# Altium footprint library modFOC_ESC.PcbLib: 36 footprints (part 1 of 3)
Each footprint in its own frame and in the unit in brackets; x right, y up, seen from the top. Pads: shape width x height; smd on the part's side, far side on the other; paste and mask are expansions set on the pad; w line width, h text height; cw(c..) or ccw(c..) is an arc to the next point about the centre after c.
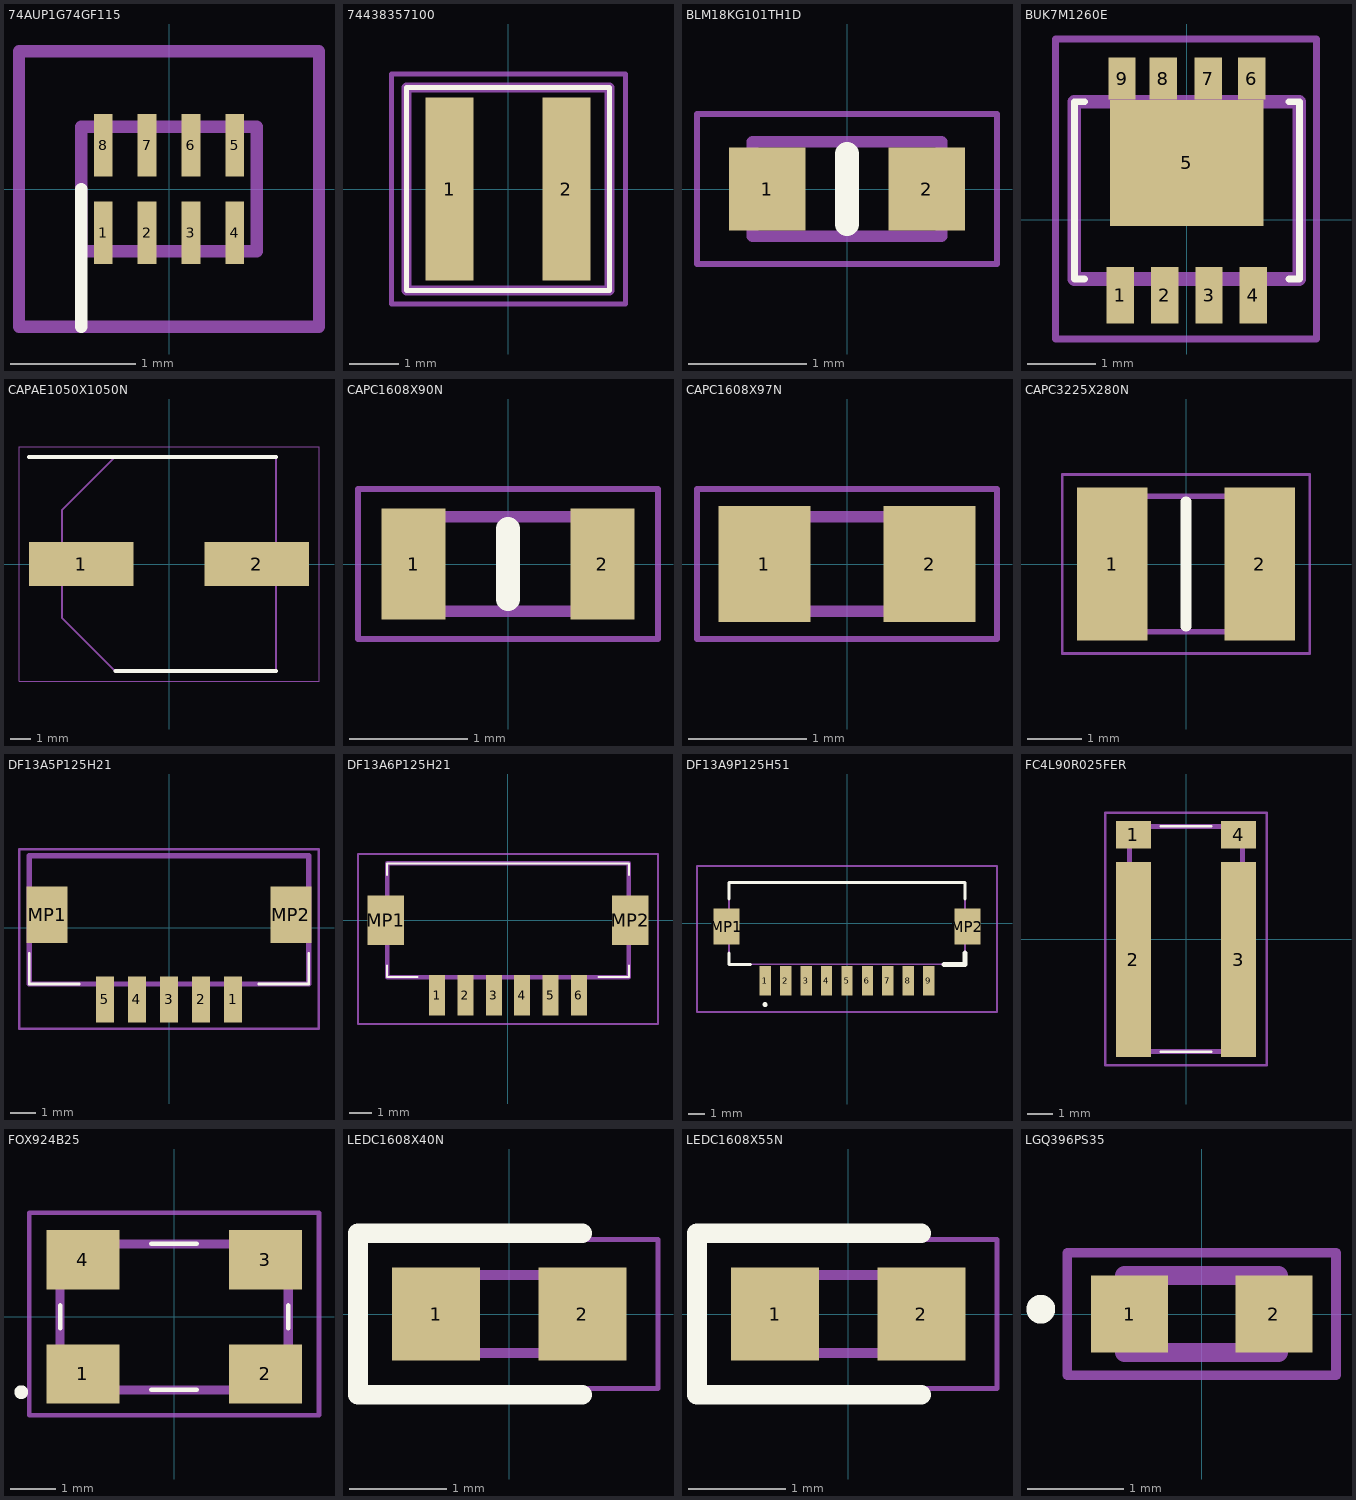
[diagram p0: the footprints below, top view; thin cyan lines are the x and y axes]

## 74AUP1G74GF115 [mm]
pads (8):
  rect 0.15x0.5 smd: 1(-0.525,-0.35) 2(-0.175,-0.35) 3(0.175,-0.35) 4(0.525,-0.35) 5(0.525,0.35) 6(0.175,0.35) 7(-0.175,0.35) 8(-0.525,0.35)
Top Overlay:
  lines w0.1: -0.7,-1.1 -0.7,0
Mechanical 13:
  lines w0.1: -0.7,-0.5 0.7,-0.5 0.7,0.5 -0.7,0.5 -0.7,-0.5
Mechanical 15:
  lines w0.1: -1.2,-1.1 1.2,-1.1 1.2,1.1 -1.2,1.1 -1.2,-1.1
3D body "74AUP2G132GF,115.stp": height 0.6, standoff 0, extent -0.7,-0.5 0.7,0.5

## 74438357100 [mm]
pads (2):
  rect 0.97x3.7 smd: 1(-1.18,0) 2(1.18,0)
Top Overlay:
  lines w0.1: -2.05,-2.05 -2.05,2.05 2.05,2.05 2.05,-2.05 -2.05,-2.05
Mechanical 13:
  lines w0.2: -2.05,-2.05 -2.05,2.05 2.05,2.05 2.05,-2.05 -2.05,-2.05
Mechanical 15:
  lines w0.1: -2.35,-2.325 -2.35,2.325 2.375,2.325 2.375,-2.325 -2.35,-2.325
3D body "74438357100.stp": height 4.1, standoff 0, extent -2.05,-2.05 2.05,2.05

## BLM18KG101TH1D [mm]
pads (2):
  rect 0.65x0.7 smd: 1(-0.675,0) 2(0.675,0)
Top Overlay:
  lines w0.2: 0,-0.3 0,0.3
Mechanical 13:
  lines w0.1: -0.8,-0.4 -0.8,0.4 0.8,0.4 0.8,-0.4 -0.8,-0.4
Mechanical 15:
  lines w0.05: -1.27,-0.635 -1.27,0.635 1.27,0.635 1.27,-0.635 -1.27,-0.635
3D body "BLM18KG300TH1D.stp": height 0.85, standoff 0, extent -0.935,-0.4 0.935,0.4

## BUK7M1260E [mm]
pads (9):
  rect 0.4x0.83 smd: 1(-0.975,-1.106) 2(-0.325,-1.106) 3(0.325,-1.106) 4(0.975,-1.106)
  rect 2.25x1.85 smd: 5(0,0.834)
  rect 0.4x0.62 smd: 6(0.95,2.069) 7(0.312,2.069) 8(-0.345,2.069) 9(-0.95,2.069)
Top Overlay:
  lines w0.1: -1.5,-0.869 -1.65,-0.869 -1.65,1.731 -1.5,1.731 ; 1.5,-0.869 1.65,-0.869 1.65,1.731 1.5,1.731
Mechanical 13:
  lines w0.2: -1.65,-0.869 -1.65,1.731 1.65,1.731 1.65,-0.869 -1.65,-0.869
Mechanical 15:
  lines w0.1: -1.925,-1.75 -1.925,2.65 1.9,2.65 1.9,-1.75 -1.925,-1.75

## CAPAE1050X1050N [mm]
pads (2):
  rect 5.1x2.15 smd: 1(-4.3,0) 2(4.3,0)
Top Overlay:
  lines w0.2: -6.85,5.25 5.25,5.25 ; -2.625,-5.25 5.25,-5.25
Mechanical 13:
  lines w0.1: -5.25,-2.625 -5.25,2.625 -2.625,5.25 5.25,5.25 5.25,-5.25 -2.625,-5.25 -5.25,-2.625
Mechanical 15:
  lines w0.05: -7.35,-5.75 7.35,-5.75 7.35,5.75 -7.35,5.75 -7.35,-5.75
3D body "MAL215097701E3.stp": height 10.5, standoff 0, extent -6.05,-5.25 6.05,5.25

## CAPC1608X90N [mm]
pads (2):
  rect 0.54x0.94 smd: 1(-0.8,0) 2(0.8,0)
Top Overlay:
  lines w0.2: 0,-0.3 0,0.3
Mechanical 13:
  lines w0.1: -0.8,-0.4 -0.8,0.4 0.8,0.4 0.8,-0.4 -0.8,-0.4
Mechanical 15:
  lines w0.05: -1.27,-0.635 -1.27,0.635 1.27,0.635 1.27,-0.635 -1.27,-0.635
3D body "CGA3E2X7R1H473K080AA.stp": height 0.9, standoff 0, extent -0.8,-0.4 0.8,0.4

## CAPC1608X97N [mm]
pads (2):
  rect 0.78x0.98 smd: 1(-0.7,0) 2(0.7,0)
Mechanical 13:
  lines w0.1: -0.8,-0.4 -0.8,0.4 0.8,0.4 0.8,-0.4 -0.8,-0.4
Mechanical 15:
  lines w0.05: -1.27,-0.635 -1.27,0.635 1.27,0.635 1.27,-0.635 -1.27,-0.635
3D body "VJ0603Y104JXJAC.stp": height 0.97, standoff 0, extent -0.8,-0.4 0.8,0.4

## CAPC3225X280N [mm]
pads (2):
  rect 1.3x2.82 smd: 1(-1.36,0) 2(1.36,0)
Top Overlay:
  lines w0.2: 0,-1.15 0,1.15
Mechanical 13:
  lines w0.1: -1.6,-1.25 1.6,-1.25 1.6,1.25 -1.6,1.25 -1.6,-1.25
Mechanical 15:
  lines w0.05: -2.286,-1.651 2.286,-1.651 2.286,1.651 -2.286,1.651 -2.286,-1.651
3D body "CL32B106KMVNNWE.stp": height 2.8, standoff 0, extent -1.6,-1.25 1.6,1.25

## DF13A5P125H21 [mm]
pads (7):
  rect 0.7x1.8 smd: 1(2.5,-2.8) 2(1.25,-2.8) 3(0,-2.8) 4(-1.25,-2.8) 5(-2.5,-2.8)
  rect 1.6x2.2 smd: MP1(-4.75,0.5) MP2(4.75,0.5)
Top Overlay:
  lines w0.1: -5.45,-1 -5.45,-2.2 -3.5,-2.2 ; 3.5,-2.2 5.45,-2.2 5.45,-1
Mechanical 13:
  lines w0.2: -5.45,-2.2 -5.45,2.8 5.45,2.8 5.45,-2.2 -5.45,-2.2
Mechanical 15:
  lines w0.1: -5.842,-3.937 -5.842,3.048 5.842,3.048 5.842,-3.937 -5.842,-3.937
3D body "DF13A-5P-1.25H_21_.stp": height 3.85, standoff 0, extent -5.45,-3.63 5.45,2.8

## DF13A6P125H21 [mm]
pads (8):
  rect 0.7x1.8 smd: 1(-3.125,-3.3) 2(-1.875,-3.3) 3(-0.625,-3.3) 4(0.625,-3.3) 5(1.875,-3.3) 6(3.125,-3.3)
  rect 1.6x2.2 smd: MP1(-5.375,0) MP2(5.375,0)
Top Overlay:
  lines w0.1: -5.325,-2 -5.325,-2.5 -4,-2.5 ; -5.325,2 -5.325,2.5 5.325,2.5 5.325,2 ; 4,-2.5 5.325,-2.5 5.325,-2
Mechanical 13:
  lines w0.2: -5.325,-2.5 5.325,-2.5 5.325,2.5 -5.325,2.5 -5.325,-2.5
Mechanical 15:
  lines w0.1: -6.604,-4.572 6.604,-4.572 6.604,2.921 -6.604,2.921 -6.604,-4.572
3D body "DF13A-6P-1.25H.stp": height 3.68, standoff 0.08, extent -6.075,-3.833 6.075,2.667

## DF13A9P125H51 [mm]
pads (11):
  rect 0.7x1.8 smd: 1(-5,-3.5) 2(-3.75,-3.5) 3(-2.5,-3.5) 4(-1.25,-3.5) 5(0,-3.5) 6(1.25,-3.5) 7(2.5,-3.5) 8(3.75,-3.5) 9(5,-3.5)
  rect 1.6x2.2 smd: MP1(-7.35,-0.2) MP2(7.35,-0.2)
Top Overlay:
  lines w0.2: -7.2,-1.8 -7.2,-2.5 -5.9,-2.5 ; -7.2,1.5 -7.2,2.5 7.2,2.5 7.2,1.5 ; -5,-5 cw(c-5,-4.95) -5,-4.9 ; -5,-5 cw(c-5,-4.95) -5,-4.9 ; -5,-5 ccw(c-5,-4.95) -5,-4.9
  lines w0.3: 5.9,-2.5 7.2,-2.5 7.2,-1.8
Mechanical 13:
  lines w0.1: -7.2,-2.5 -7.2,2.5 7.2,2.5 7.2,-2.5 -7.2,-2.5
Mechanical 15:
  lines w0.1: -9.15,-5.4 -9.15,3.5 9.15,3.5 9.15,-5.4 -9.15,-5.4

## FC4L90R025FER [mm]
pads (4):
  rect 1.4x1.1 smd: 1(-2.1,4.175) 4(2.1,4.175)
  rect 1.4x7.8 smd: 2(-2.1,-0.825) 3(2.1,-0.825)
Top Overlay:
  lines w0.1: -1,-4.5 1,-4.5 -1,-4.5 ; -1,4.5 1,4.5 -1,4.5
Mechanical 13:
  lines w0.2: -2.25,-4.5 2.25,-4.5 2.25,4.5 -2.25,4.5 -2.25,-4.5
Mechanical 15:
  lines w0.1: -3.225,-5.05 3.225,-5.05 3.225,5.05 -3.225,5.05 -3.225,-5.05
3D body "FC4L90R025FER.stp": height 0.9, standoff 0, extent -2.69,-4.585 2.69,4.615

## FOX924B25 [mm]
pads (4):
  rect 1.6x1.3 smd: 1(-2,-1.25) 2(2,-1.25) 3(2,1.25) 4(-2,1.25)
Top Overlay:
  lines w0.1: -2.5,-0.25 -2.5,0.25 -2.5,-0.25 ; -0.5,-1.6 0.5,-1.6 -0.5,-1.6 ; -0.5,1.6 0.5,1.6 -0.5,1.6 ; 2.5,-0.25 2.5,0.25 2.5,-0.25
  lines w0.2: -3.4,-1.65 ccw(c-3.35,-1.65) -3.3,-1.65 ; -3.4,-1.65 cw(c-3.35,-1.65) -3.3,-1.65 ; -3.4,-1.65 ccw(c-3.35,-1.65) -3.3,-1.65
Mechanical 13:
  lines w0.2: -2.5,-1.6 2.5,-1.6 2.5,1.6 -2.5,1.6 -2.5,-1.6
Mechanical 15:
  lines w0.1: -3.175,-2.159 3.175,-2.159 3.175,2.286 -3.175,2.286 -3.175,-2.159
3D body "FOX924B-27.stp": height 1.6, standoff 0, extent -2.67,-1.77 2.67,1.77

## LEDC1608X40N [mm]
pads (2):
  rect 0.9x0.95 smd: 1(-0.75,0) 2(0.75,0)
Top Overlay:
  lines w0.2: 0.75,-0.825 -1.55,-0.825 -1.55,0.825 0.75,0.825
Mechanical 13:
  lines w0.1: -0.8,0.133 -0.533,0.4 ; -0.8,-0.4 -0.8,0.4 0.8,0.4 0.8,-0.4 -0.8,-0.4
Mechanical 15:
  lines w0.05: -1.524,-0.762 -1.524,0.762 1.524,0.762 1.524,-0.762 -1.524,-0.762
3D body "LG_Q396-PS-35.stp": height 0.5, standoff 0, extent -0.8,-0.4 0.8,0.4

## LEDC1608X55N [mm]
pads (2):
  rect 0.9x0.95 smd: 1(-0.75,0) 2(0.75,0)
Top Overlay:
  lines w0.2: 0.75,-0.825 -1.55,-0.825 -1.55,0.825 0.75,0.825
Mechanical 13:
  lines w0.1: -0.8,0.133 -0.533,0.4 ; -0.8,-0.4 0.8,-0.4 0.8,0.4 -0.8,0.4 -0.8,-0.4
Mechanical 15:
  lines w0.05: -1.524,-0.762 1.524,-0.762 1.524,0.762 -1.524,0.762 -1.524,-0.762
3D body "LG_Q396-PS-35.stp": height 0.5, standoff 0, extent -0.8,-0.4 0.8,0.4

## LGQ396PS35 [mm]
pads (2):
  rect 0.8x0.8 smd: 1(-0.75,0) 2(0.75,0)
Top Overlay:
  lines w0.2: -1.673,0 ccw(c-1.673,0.05) -1.673,0.1 ; -1.673,0 cw(c-1.673,0.05) -1.673,0.1 ; -1.673,0 ccw(c-1.673,0.05) -1.673,0.1
Mechanical 13:
  lines w0.2: -0.8,-0.4 -0.8,0.4 0.8,0.4 0.8,-0.4 -0.8,-0.4
Mechanical 15:
  lines w0.1: -1.397,-0.635 -1.397,0.635 1.397,0.635 1.397,-0.635 -1.397,-0.635
3D body "LG_Q396-PS-35.stp": height 0.5, standoff 0, extent -0.8,-0.4 0.8,0.4